# Altium schematic symbol library miniVent.SchLib: 4 symbols
Pins are listed as number, name and electrical type; pins without a type are passive.

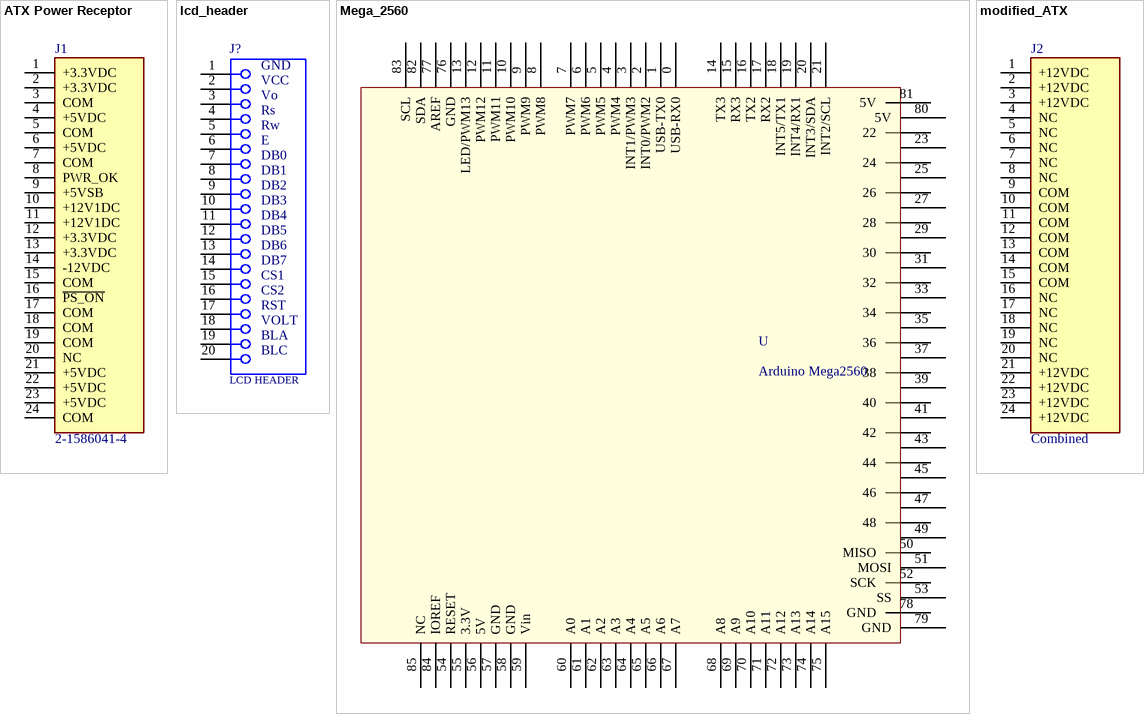
[diagram p0: symbols ATX Power Receptor to modified_ATX]

## ATX Power Receptor
designator J1, comment 2-1586041-4
ATX main 24 PIN; MF: TE Connectivity; Value: *; TE_purchase_URL: https://www.te.com/usa-en/product-2-1586041-4.html?te_bu=Cor&te_type=disp&te_campaign=seda_glo_cor-seda-global-disp-prtnr-fy19-seda-model-bom-cta_sma-317_1&elqCampaignId=32493; Price: None; Package: None; SnapEDA_Link: https://www.snapeda.com/parts/2-1586041-4/TE%20Connectivity%20AMP%20Connectors/view-part/2469079/?ref=snap; Availability: Unavailable; MP: 2-1586041-4
footprint Molex24Pin (Molex ATX 24Pin)
footprint Molex24Pin - Vertical (Molex ATX 24Pin)
pins: 1 +3.3VDC, 2 +3.3VDC, 3 COM, 4 +5VDC, 5 COM, 6 +5VDC, 7 COM, 8 PWR_OK, 9 +5VSB, 10 +12V1DC, 11 +12V1DC, 12 +3.3VDC, 13 +3.3VDC, 14 -12VDC, 15 COM, 16 ~{PS_ON}, 17 COM, 18 COM, 19 COM, 20 NC, 21 +5VDC, 22 +5VDC, 23 +5VDC, 24 COM

## lcd_header
designator J?, comment LCD HEADER
WR-PHD Socket Header, THT, pitch 2.54mm, Single Row, Vertical, 20pin; Part Number: 61302011821; Pin Number: 20; Gender: Female; Rated Current: 3A; Working Voltage: 250VAC; Withstanding Voltage: 500VAC; Contact Resistance: 20mOhm; ComponentLink1Description: Manufacturer; ComponentLink1URL: http://www.we-online.de; ComponentLink2Description: Datasheet; ComponentLink2URL: https://katalog.we-online.de/em/datasheet/6130xx11821.pdf; Published Date: June 2019; Publisher: Wurth Elektronik; Pitch: 2.54mm; Operating Temperature: -40 to +125degC; Mounting Technology: THT; Packaging: Tray; Row Number: Single; Orientation: Vertical
footprint LCD Socket (Socket Header, Pitch 2.54 mm, THT, Vertical, single row, 20p)
pins: 1 2, 2, 3, 4, 5, 6, 7, 8, 9, 10, 11, 12, 13, 14, 15, 16, 17, 18, 19, 20
text: GND; VCC; Vo; Rs; Rw; E; DB0; DB1; DB2; DB3; DB4; DB5; DB6; DB7; CS1; CS2; RST; VOLT; BLA; BLC

## Mega_2560
designator U, comment Arduino Mega2560
Arduino Mege 2560 R3
footprint MEGA2560 (Arduino 2560)
pins: 0 USB-RX0, 1 USB-TX0, 2 INT0/PWM2, 3 INT1/PWM3, 4 PWM4, 5 PWM5, 6 PWM6, 7 PWM7, 8 PWM8, 9 PWM9, 10 PWM10, 11 PWM11, 12 PWM12, 13 LED/PWM13, 14 TX3, 15 RX3, 16 TX2, 17 RX2, 18 INT5/TX1, 19 INT4/RX1, 20 INT3/SDA, 21 INT2/SCL, 22, 23, 24, 25, 26, 27, 28, 29, 30, 31, 32, 33, 34, 35, 36, 37, 38, 39, 40, 41, 42, 43, 44, 45, 46, 47, 48, 49, 50 MISO, 51 MOSI, 52 SCK, 53 SS, 54 RESET, 55 3.3V, 56 5V, 57 GND, 58 GND, 59 Vin, 60 A0, 61 A1, 62 A2, 63 A3, 64 A4, 65 A5, 66 A6, 67 A7, 68 A8, 69 A9, 70 A10, 71 A11, 72 A12, 73 A13, 74 A14, 75 A15, 76 GND, 77 AREF, 78 GND, 79 GND, 80 5V, 81 5V, 82 SDA, 83 SCL, 84 IOREF, 85 NC

## modified_ATX
designator J2, comment Combined
ATX Combined; MF: TE Connectivity; MP: 2-1586041-4; Value: *; TE_purchase_URL: https://www.te.com/usa-en/product-2-1586041-4.html?te_bu=Cor&te_type=disp&te_campaign=seda_glo_cor-seda-global-disp-prtnr-fy19-seda-model-bom-cta_sma-317_1&elqCampaignId=32493; Price: None; Package: None; SnapEDA_Link: https://www.snapeda.com/parts/2-1586041-4/TE%20Connectivity%20AMP%20Connectors/view-part/2469079/?ref=snap; Availability: Unavailable
footprint Molex24Pin (Molex ATX 24Pin)
footprint Molex24Pin - Vertical (Molex ATX 24Pin)
pins: 1 +12VDC, 2 +12VDC, 3 +12VDC, 4 NC, 5 NC, 6 NC, 7 NC, 8 NC, 9 COM, 10 COM, 11 COM, 12 COM, 13 COM, 14 COM, 15 COM, 16 NC, 17 NC, 18 NC, 19 NC, 20 NC, 21 +12VDC, 22 +12VDC, 23 +12VDC, 24 +12VDC